# EAGLE library part 53?-17 (library connectors-molex)
CONNECTOR wire to board 1.25 mm (.049 inch) pitch header
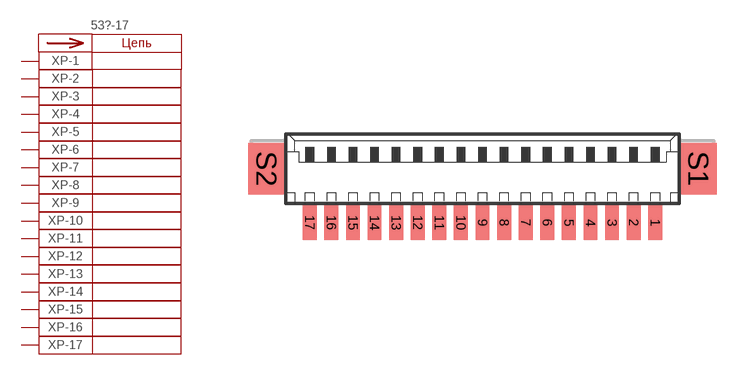
[diagram p10: symbol with the pads of 53261-17; footprint 53261-17]

Designator prefix XP; gates -1=MV -2=M -3=M -4=M -5=M -6=M -7=M -8=M -9=M -10=M -11=M -12=M -13=M -14=M -15=M -16=M -17=M

## 53261-17  [53261-17]
1  -1:S  pas
2  -2:S  pas
3  -3:S  pas
4  -4:S  pas
5  -5:S  pas
6  -6:S  pas
7  -7:S  pas
8  -8:S  pas
9  -9:S  pas
10  -10:S  pas
11  -11:S  pas
12  -12:S  pas
13  -13:S  pas
14  -14:S  pas
15  -15:S  pas
16  -16:S  pas
17  -17:S  pas

## Footprint 53261-17 (pad centres in mm)
CONNECTOR wire to board 1.25 mm (.049 inch) pitch header SMT right angle
smd 0.8 x 2: 1 10,-2.5; 2 8.75,-2.5; 3 7.5,-2.5; 4 6.25,-2.5; 5 5,-2.5; 6 3.75,-2.5; 7 2.5,-2.5; 8 1.25,-2.5; 9 0,-2.5; 10 -1.25,-2.5; 11 -2.5,-2.5; 12 -3.75,-2.5; 13 -5,-2.5; 14 -6.25,-2.5; 15 -7.5,-2.5; 16 -8.75,-2.5; 17 -10,-2.5
smd 2.1 x 3: S1 12.5,0.625; S2 -12.5,0.625